# Altium schematic symbol library WJ2EDGV.SCHLIB: 1 symbol
Pins are listed as number, name and electrical type; pins without a type are passive.

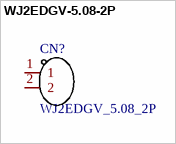
[diagram p0: symbol WJ2EDGV-5.08-2P]

## WJ2EDGV-5.08-2P
designator CN?  Name: WJ2EDGV_5.08_2P  (hidden comment: WJ2EDGV-5.08-2P)
连接器类型:板端/插座-开口;间距:5.08mm;排数:1;每排PIN数:2;安装方式:直针;颜色:绿色;; Manufacturer: KANGNEX(康奈克斯电气); Add into BOM: yes; Pitch: 5.08mm; Number of PINs Per Row: 2; Symbol: WJ2EDGV-5.08-2P; Device: WJ2EDGV-5.08-2P; LCSC Part Name: 板端/插座-开口 5.08mm 排数:1 每排P数:2 直针; Supplier Part: C8461; Manufacturer Part: WJ2EDGV-5.08-2P; Supplier Footprint: 直插,P=5.08mm; JLCPCB Part Class: 扩展库; Datasheet: https://atta.szlcsc.com/upload/public/pdf/source/20191225/C8461_177EB00EC60F9C1AD12B590D31C8666C.pdf; Supplier: LCSC; Convert to PCB: yes; Connector Type: 板端/插座-开口; Number of Rows: 1; Mounting Style: 直针; Color: 绿色
footprint CONN-TH_WJ2EDGV-5.08-2P
3D model CONN-TH_WJ5.08_LI-2P
pins: 1, 2